# Altium footprint library Capacitors_rus.PCBLIB: 349 footprints (part 8 of 22)
Each footprint in its own frame and in the unit in brackets; x right, y up, seen from the top. Pads: shape width x height; smd on the part's side, far side on the other; paste and mask are expansions set on the pad; w line width, h text height; cw(c..) or ccw(c..) is an arc to the next point about the centre after c.
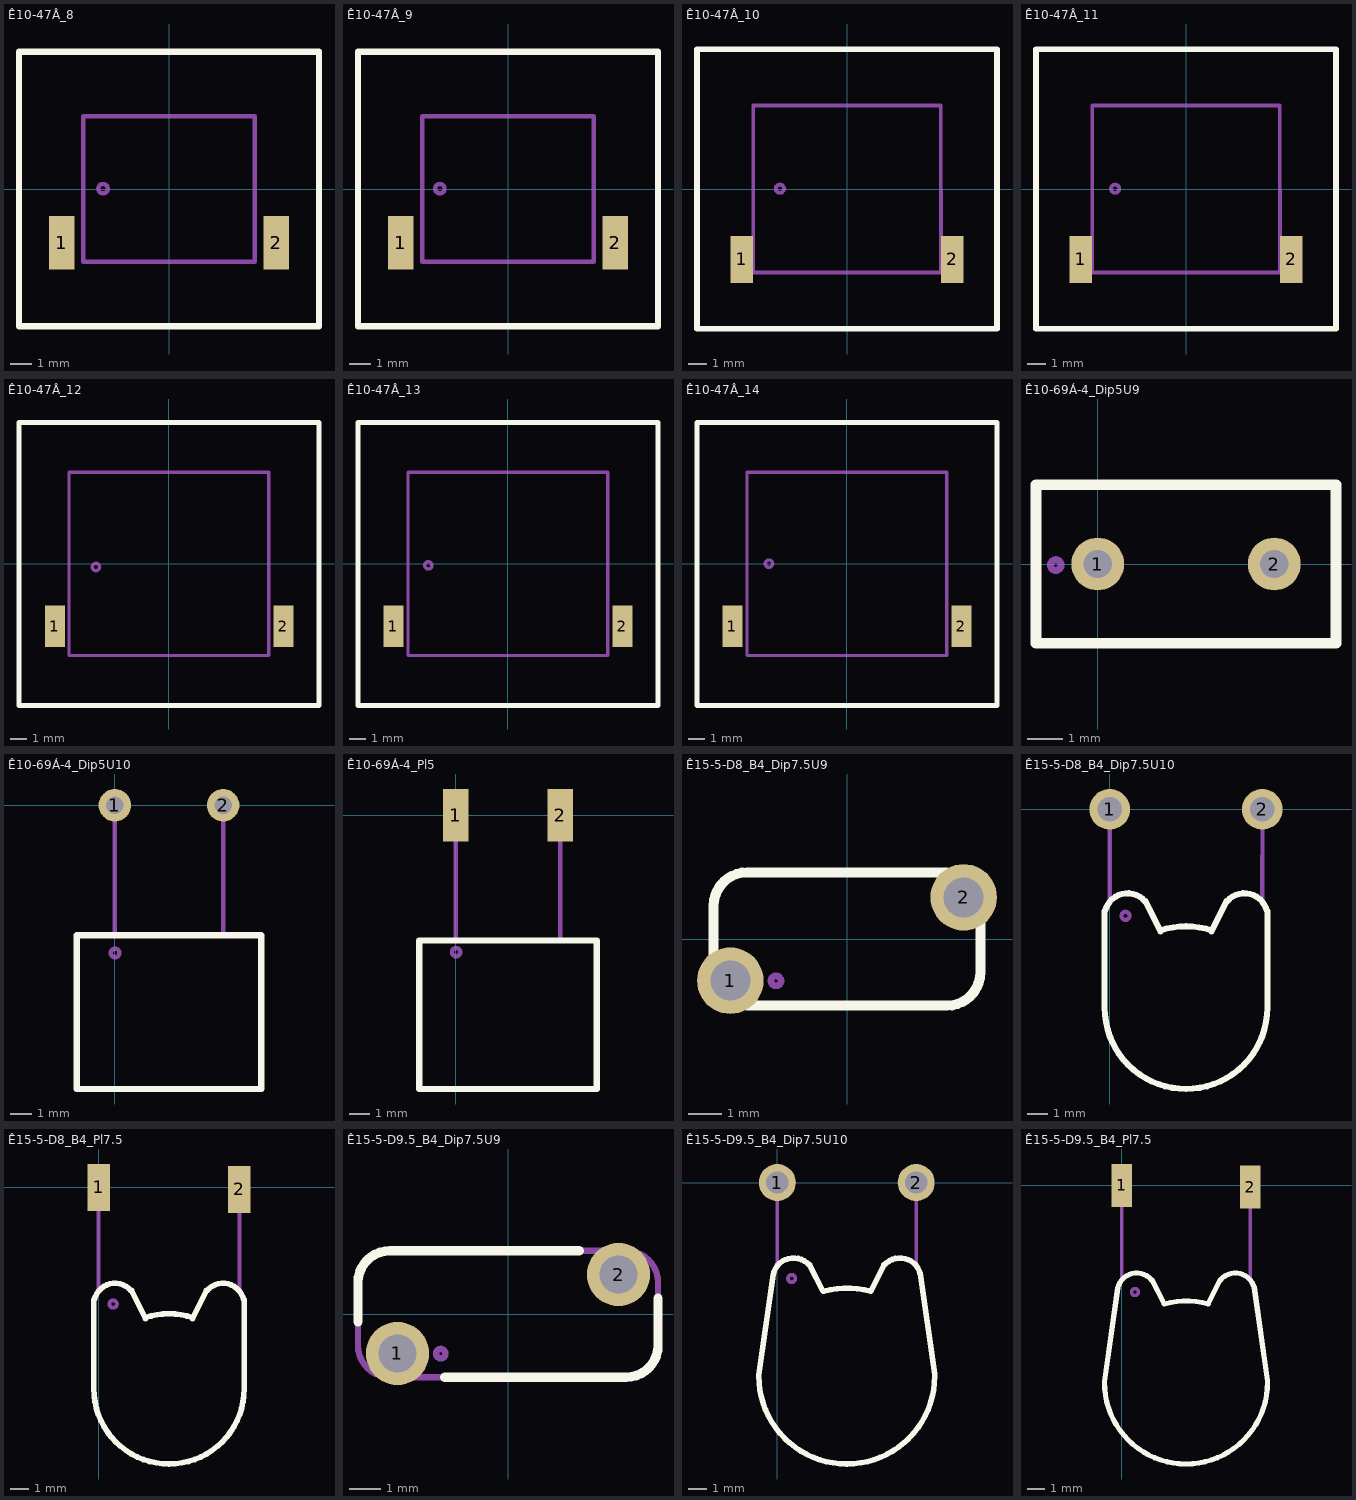
[diagram p7: the footprints below, top view; thin cyan lines are the x and y axes]

## Ê10-47Â_8 [mm]
height 2.5
pads (2):
  rect 1.2x2.5 smd: 1(-5,-2.5) 2(5,-2.5)
Top Overlay:
  lines w0.3: -7,-6.4 -7,6.4 7,6.4 7,-6.4 -7,-6.4
Mechanical 1:
  circle w0.2: c-3.08,0.015 r0.22
  lines w0.2: -7,-6.4 -7,6.4 7,6.4 7,-6.4 -7,-6.4 ; -4,-3.4 -4,3.4 4,3.4 4,-3.4 -4,-3.4
  text ".Designator" at -1.97,-0.65 h1.5

## Ê10-47Â_9 [mm]
height 3
pads (2):
  rect 1.2x2.5 smd: 1(-5,-2.5) 2(5,-2.5)
Top Overlay:
  lines w0.3: -7,-6.4 7,-6.4 7,6.4 -7,6.4 -7,-6.4
Mechanical 1:
  circle w0.2: c-3.18,0.015 r0.22
  lines w0.2: -7,-6.4 7,-6.4 7,6.4 -7,6.4 -7,-6.4 ; -4,-3.4 4,-3.4 4,3.4 -4,3.4 -4,-3.4
  text ".Designator" at -2.12,-0.55 h1.5

## Ê10-47Â_10 [mm]
height 2.5
pads (2):
  rect 1.2x2.5 smd: 1(-5.625,-3.75) 2(5.625,-3.75)
Top Overlay:
  lines w0.3: -8,-7.45 8,-7.45 8,7.45 -8,7.45 -8,-7.45
Mechanical 1:
  circle w0.2: c-3.58,0.015 r0.22
  lines w0.2: 5,-4.45 -5,-4.45 -5,4.45 5,4.45 5.01,-4.45 ; -8,-7.45 8,-7.45 8,7.45 -8,7.45 -8,-7.45
  text ".Designator" at -2.02,-0.7 h1.5

## Ê10-47Â_11 [mm]
height 3
pads (2):
  rect 1.2x2.5 smd: 1(-5.625,-3.75) 2(5.625,-3.75)
Top Overlay:
  lines w0.3: -8,-7.45 8,-7.45 8,7.45 -8,7.45 -8,-7.45
Mechanical 1:
  circle w0.2: c-3.78,0.015 r0.22
  lines w0.2: 5,-4.45 -5,-4.45 -5,4.45 5,4.45 5.01,-4.45 ; -8,-7.45 8,-7.45 8,7.45 -8,7.45 -8,-7.45
  text ".Designator" at -2.27,-0.35 h1.5

## Ê10-47Â_12 [mm]
height 2.5
pads (2):
  rect 1.2x2.5 smd: 1(-6.85,-3.75) 2(6.875,-3.75)
Top Overlay:
  lines w0.3: -9,-8.5 9,-8.5 9,8.5 -9,8.5 -9,-8.5
Mechanical 1:
  circle w0.2: c-4.38,-0.185 r0.22
  lines w0.2: -9,-8.51 -9,8.5 9,8.5 9,-8.5 ; -9,-8.5 9.01,-8.5 ; -6,-5.5 6,-5.5 6,5.5 -6,5.5 -6,-5.5
  text ".Designator" at -2.67,-0.5 h1.5

## Ê10-47Â_13 [mm]
height 3
pads (2):
  rect 1.2x2.5 smd: 1(-6.875,-3.75) 2(6.875,-3.75)
Top Overlay:
  lines w0.3: -9,-8.5 9,-8.5 9,8.5 -9,8.5 -9,-8.5
Mechanical 1:
  circle w0.2: c-4.78,-0.085 r0.22
  lines w0.2: -9,-8.51 -9,8.5 9,8.5 9,-8.5 ; -9,-8.5 9.01,-8.5 ; -6,-5.5 6,-5.5 6,5.5 -6,5.5 -6,-5.5
  text ".Designator" at -2.17,-0.35 h1.5

## Ê10-47Â_14 [mm]
height 4.5
pads (2):
  rect 1.2x2.5 smd: 1(-6.875,-3.75) 2(6.875,-3.75)
Top Overlay:
  lines w0.3: -9,-8.5 9,-8.5 9,8.5 -9,8.5 -9,-8.5
Mechanical 1:
  circle w0.2: c-4.68,0.015 r0.22
  lines w0.2: -9,-8.51 -9,8.5 9,8.5 9,-8.5 ; -9,-8.5 9.01,-8.5 ; -6,-5.5 6,-5.5 6,5.5 -6,5.5 -6,-5.5
  text ".Designator" at -3.07,-0.35 h1.5

## Ê10-69Á-4_Dip5U9 [mm]
height 10.1
pads (2):
  round 1.5 hole 0.8: 1(0,0) 2(5,0)
Top Overlay:
  lines w0.3: -1.75,-2.25 6.75,-2.25 6.75,2.25 -1.75,2.25 -1.75,-2.25
Mechanical 1:
  circle w0.2: c-1.19,-0.03 r0.15
  lines w0.2: -1.75,-2.25 6.75,-2.25 6.75,2.25 -1.75,2.25 -1.75,-2.25
  text ".Designator" at 0.73,-0.35 h1.5

## Ê10-69Á-4_Dip5U10 [mm]
height 4.5
pads (2):
  round 1.5 hole 0.8: 1(0,0) 2(5,0)
Top Overlay:
  lines w0.3: -1.75,-13.1 -1.75,-6 6.75,-6 6.75,-13.1 -1.75,-13.1
Mechanical 1:
  circle w0.2: c0.01,-6.82 r0.2
  lines w0.2: 0,-6 0,0 ; 5,-6 5,0 ; -1.75,-13.1 -1.75,-6 6.75,-6 6.75,-13.1 -1.75,-13.1
  text ".Designator" at -0.22,-10 h1.5

## Ê10-69Á-4_Pl5 [mm]
height 4.5
pads (2):
  rect 1.2x2.5 smd: 1(0,0) 2(5,0)
Top Overlay:
  lines w0.3: -1.75,-13.1 -1.75,-6 6.75,-6 6.75,-13.1 -1.75,-13.1
Mechanical 1:
  circle w0.2: c0.015,-6.555 r0.2
  lines w0.2: 0,-6 0,0 ; 5,-6 5,0 ; -1.75,-13.1 -1.75,-6 6.75,-6 6.75,-13.1 -1.75,-13.1
  text ".Designator" at 0.58,-9.85 h1.5

## Ê15-5-D8_B4_Dip7.5U9 [mm]
height 14
pads (2):
  round 2 hole 1.2: 1(-3.5,-1.25) 2(3.5,1.25)
Top Overlay:
  lines w0.3: -4,-1 ccw(c-3,-1) -3,-2 3,-2 ccw(c3,-1) 4,-1 4,1 ccw(c3,1) 3,2 -3,2 ccw(c-3,1) -4,1 -4,-1
Mechanical 1:
  circle w0.2: c-2.13,-1.255 r0.15
  lines w0.2: -4,-1 ccw(c-3,-1) -3,-2 3,-2 ccw(c3,-1) 4,-1 4,1 ccw(c3,1) 3,2 -3,2 ccw(c-3,1) -4,1 -4,-1
  text ".Designator" at -1.07,-0.35 h1.5

## Ê15-5-D8_B4_Dip7.5U10 [mm]
height 6
pads (2):
  round 2 hole 1.2: 1(0,0) 2(7.5,0)
Top Overlay:
  lines w0.3: -0.25,-5 -0.25,-9.75 ccw(c3.75,-9.75) 7.75,-9.75 7.75,-5 ; -0.223,-5.007 cw(c0.875,-5.25) 1.729,-4.518 ; 1.75,-4.5 2.5,-6 ; 2.487,-5.954 cw(c3.75,-9.75) 5.013,-5.954 ; 5,-6 5.75,-4.5 ; 5.771,-4.518 cw(c6.625,-5.25) 7.723,-5.007
Mechanical 1:
  circle w0.2: c0.775,-5.235 r0.2
  lines w0.2: 0,-4.5 0,0 ; 2.487,-5.954 cw(c3.75,-9.75) 5.013,-5.954 ; 2.5,-6 1.75,-4.5 ccw(c0.875,-5.25) -0.25,-5.001 -0.25,-9.75 ccw(c3.75,-9.75) 7.75,-9.75 7.75,-5 ccw(c6.625,-5.25) 5.75,-4.5 5,-6 ; 7.5,-4.5 7.505,0
  text ".Designator" at 1.68,-9.1 h1.5

## Ê15-5-D8_B4_Pl7.5 [mm]
height 6
pads (2):
  rect 1.2x2.5 smd: 1(0,0) 2(7.5,-0.1)
Top Overlay:
  lines w0.3: -0.25,-5.975 -0.25,-10.725 ccw(c3.75,-10.725) 7.75,-10.725 7.75,-5.975 ; -0.223,-5.982 cw(c0.875,-6.225) 1.729,-5.493 ; 1.75,-5.475 2.5,-6.975 ; 2.487,-6.93 cw(c3.75,-10.725) 5.013,-6.93 ; 5,-6.975 5.75,-5.475 ; 5.771,-5.493 cw(c6.625,-6.225) 7.723,-5.982
Mechanical 1:
  circle w0.2: c0.775,-6.21 r0.2
  lines w0.2: 0,-5.475 0,0.525 ; 2.487,-6.93 cw(c3.75,-10.725) 5.013,-6.93 ; 2.5,-6.975 1.75,-5.475 ccw(c0.875,-6.225) -0.25,-5.976 -0.25,-10.725 ccw(c3.75,-10.725) 7.75,-10.725 7.75,-5.975 ccw(c6.625,-6.225) 5.75,-5.475 5,-6.975 ; 7.5,-5.475 7.5,0.525
  text ".Designator" at 1.93,-10.1 h1.5

## Ê15-5-D9.5_B4_Dip7.5U9 [mm]
height 15.5
pads (2):
  round 2 hole 1.2: 1(-3.5,-1.25) 2(3.5,1.25)
Top Overlay:
  lines w0.3: -4.75,-0.25 -4.75,1 cw(c-3.75,1) -3.75,2 2.25,2 ; -2,-2 3.75,-2 ccw(c3.75,-1) 4.75,-1 4.75,0.5
Mechanical 1:
  circle w0.2: c-2.13,-1.255 r0.15
  lines w0.2: -4.75,-1 ccw(c-3.75,-1) -3.75,-2 3.75,-2 ccw(c3.75,-1) 4.75,-1 4.75,1 ccw(c3.75,1) 3.75,2 -3.75,2 ccw(c-3.75,1) -4.75,1 -4.75,-1
  text ".Designator" at -1.07,-0.35 h1.5

## Ê15-5-D9.5_B4_Dip7.5U10 [mm]
height 6
pads (2):
  round 2 hole 1.2: 1(0,0) 2(7.5,0)
Top Overlay:
  lines w0.3: -1,-10.45 ccw(c3.75,-10.45) 8.5,-10.45 ; -1,-10.4 -0.225,-4.95 ; -0.223,-4.957 cw(c0.875,-5.2) 1.729,-4.468 ; 1.75,-4.45 2.475,-5.875 ; 2.506,-5.873 cw(c3.775,-10.45) 5.044,-5.873 ; 5.05,-5.875 5.75,-4.45 ; 5.771,-4.468 cw(c6.625,-5.2) 7.723,-4.957 ; 7.725,-4.9 8.5,-10.35
Mechanical 1:
  circle w0.2: c0.775,-5.185 r0.2
  lines w0.2: -1,-10.45 ccw(c3.75,-10.45) 8.5,-10.45 ; -1,-10.4 -0.225,-4.975 ; -0.25,-4.951 cw(c0.875,-5.2) 1.75,-4.45 2.475,-5.875 ; 0,-4.5 0,0 ; 2.489,-5.871 cw(c3.75,-10.45) 5.051,-5.882 ; 5.05,-5.875 5.75,-4.45 cw(c6.625,-5.2) 7.75,-4.951 ; 7.5,-4.5 7.505,0 ; 7.725,-4.925 8.5,-10.35
  text ".Designator" at 1.68,-9.6 h1.5

## Ê15-5-D9.5_B4_Pl7.5 [mm]
height 6
pads (2):
  rect 1.2x2.5 smd: 1(0,0) 2(7.5,-0.1)
Top Overlay:
  lines w0.3: -1,-11.475 ccw(c3.75,-11.475) 8.5,-11.475 ; -1,-11.425 -0.225,-5.975 ; -0.223,-5.982 cw(c0.875,-6.225) 1.729,-5.493 ; 1.75,-5.475 2.475,-6.9 ; 2.506,-6.898 cw(c3.775,-11.475) 5.044,-6.898 ; 5.05,-6.9 5.75,-5.475 ; 5.771,-5.493 cw(c6.625,-6.225) 7.723,-5.982 ; 7.725,-5.925 8.5,-11.375
Mechanical 1:
  circle w0.2: c0.775,-6.21 r0.2
  lines w0.2: -1,-11.475 ccw(c3.75,-11.475) 8.5,-11.475 ; -1,-11.425 -0.225,-6 ; -0.25,-5.976 cw(c0.875,-6.225) 1.75,-5.475 2.475,-6.9 ; 0,-5.475 0,0.525 ; 2.489,-6.896 cw(c3.75,-11.475) 5.051,-6.907 ; 5.05,-6.9 5.75,-5.475 cw(c6.625,-6.225) 7.75,-5.976 ; 7.5,-5.475 7.5,0.525 ; 7.725,-5.95 8.5,-11.375
  text ".Designator" at 1.93,-11.1 h1.5